# Altium integrated library NSC Amplifier.IntLib: 715 symbols (part 10 of 19)
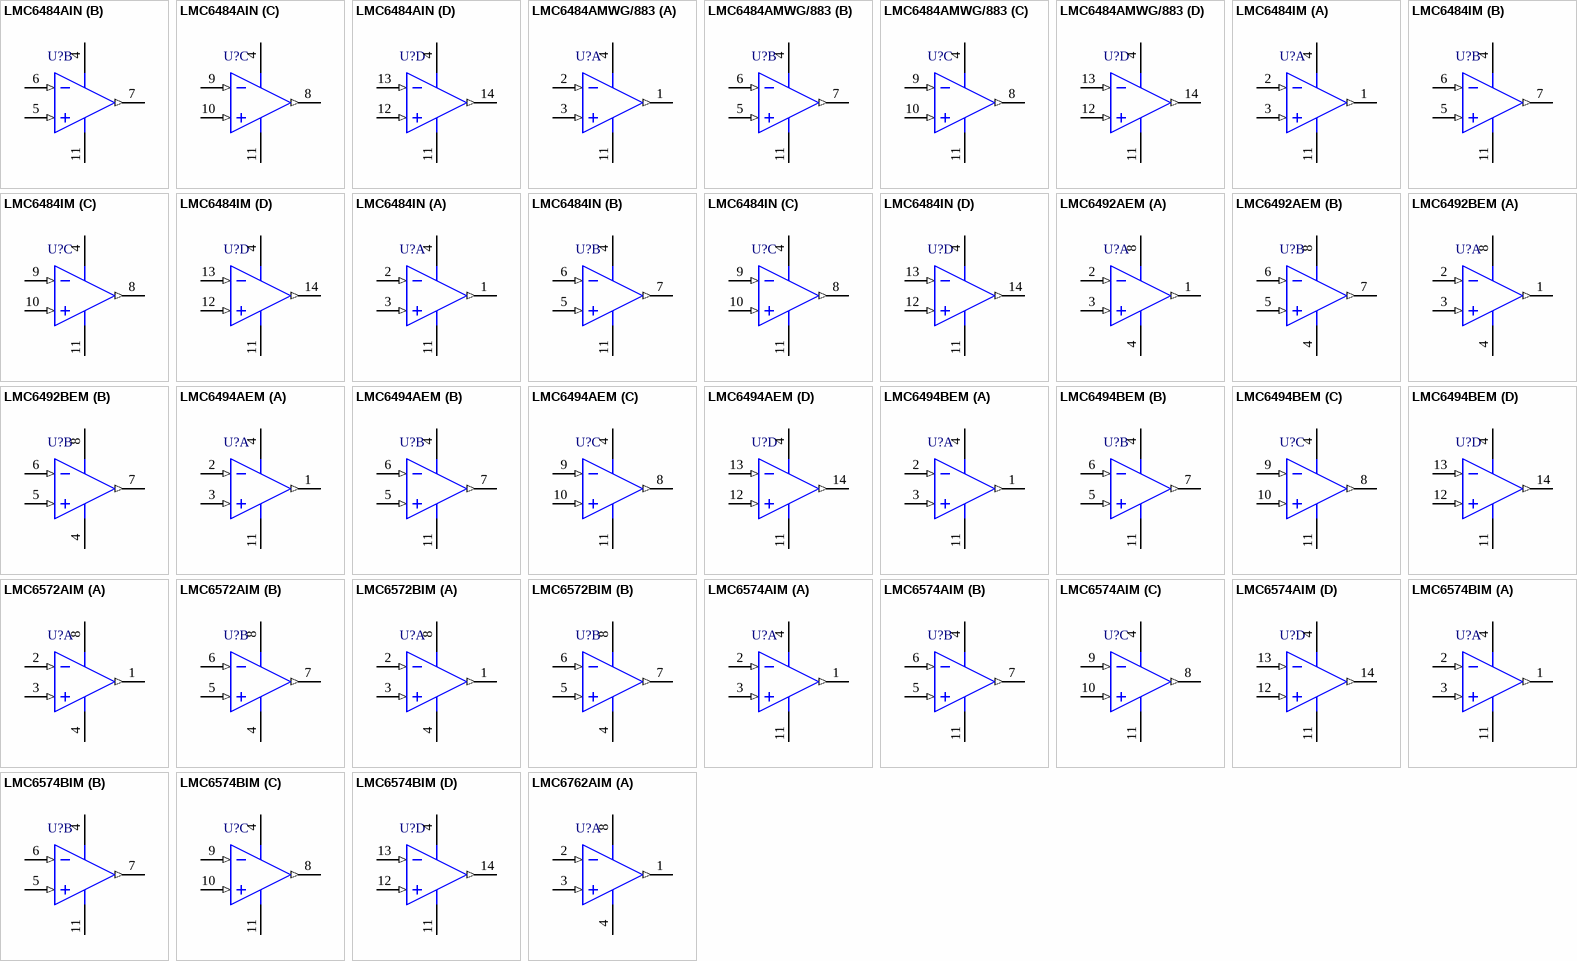
[diagram p47: symbols LMC6484AIN to LMC6762AIM]

## LMC6494AEM
designator U?
Quad CMOS Rail-to-Rail Input and Output Operational Amplifier; PartNumber: LMC6494AEM; Manufacturer: National Semiconductor; CompType: Amplifiers; PackageTopMarking: NSUZXYTT*LMC6494*AEM; Published: 4-Dec-2008; LatestRevisionDate: 13-Jan-2009; LatestRevisionNote: Sim Model Added.; DatasheetVersion: Aug-2000; PackageVersion: revJ, Jan-1996; PackageReference: M14A; Publisher: Altium Limited; PackageDescription: Molded Package S.O., .150in Wide, 14 Lead; RoHS: O; PinCount: 14; DigiKeyPartNumber: LMC6494AEM-ND; Code_JEDEC: MS-012AB; Code_IPC: SOIC127P600-14; ComponentLink1Description: LMC6494 Datasheet; ComponentLink1URL: http://www.national.com/ds/LM/LMC6494.pdf; ComponentLink2Description: LMC6494 Web Page; ComponentLink2URL: http://www.national.com/pf/LM/LMC6494.html; ComponentLink3Description: M14A Package Page; ComponentLink3URL: http://www.national.com/packaging/folders/m14a.html
footprint M14A_N (SOIC, 14-Leads, Body 8.6x3.9mm, Pitch 1.27mm, IPC Medium Density)
footprint M14A_L (SOIC, 14-Leads, Body 8.6x3.9mm, Pitch 1.27mm, IPC High Density)
footprint M14A_M (SOIC, 14-Leads, Body 8.6x3.9mm, Pitch 1.27mm, IPC Low Density)
simulation model LMC6494A (SUBCKT)
pins on every part: 4 V+ (power), 11 V- (power)
part A pins: 1 OUTA (out), 2 INA- (in), 3 INA+ (in)
part B pins: 5 INB+ (in), 6 INB- (in), 7 OUTB (out)
part C pins: 8 OUTC (out), 9 INC- (in), 10 INC+ (in)
part D pins: 12 IND+ (in), 13 IND- (in), 14 OUTD (out)

## LMC6494BEM
designator U?
Quad CMOS Rail-to-Rail Input and Output Operational Amplifier; PartNumber: LMC6494BEM; Manufacturer: National Semiconductor; CompType: Amplifiers; PackageTopMarking: NSUZXYTT*LMC6494*BEM; Published: 4-Dec-2008; LatestRevisionDate: 13-Jan-2009; LatestRevisionNote: Sim Model Added.; DatasheetVersion: Aug-2000; PackageVersion: revJ, Jan-1996; PackageReference: M14A; Publisher: Altium Limited; PackageDescription: Molded Package S.O., .150in Wide, 14 Lead; RoHS: O; PinCount: 14; DigiKeyPartNumber: LMC6494BEM-ND; Code_JEDEC: MS-012AB; Code_IPC: SOIC127P600-14; ComponentLink1Description: LMC6494 Datasheet; ComponentLink1URL: http://www.national.com/ds/LM/LMC6494.pdf; ComponentLink2Description: LMC6494 Web Page; ComponentLink2URL: http://www.national.com/pf/LM/LMC6494.html; ComponentLink3Description: M14A Package Page; ComponentLink3URL: http://www.national.com/packaging/folders/m14a.html
footprint M14A_N (SOIC, 14-Leads, Body 8.6x3.9mm, Pitch 1.27mm, IPC Medium Density)
footprint M14A_L (SOIC, 14-Leads, Body 8.6x3.9mm, Pitch 1.27mm, IPC High Density)
footprint M14A_M (SOIC, 14-Leads, Body 8.6x3.9mm, Pitch 1.27mm, IPC Low Density)
simulation model LMC6494B (SUBCKT)
pins on every part: 4 V+ (power), 11 V- (power)
part A pins: 1 OUTA (out), 2 INA- (in), 3 INA+ (in)
part B pins: 5 INB+ (in), 6 INB- (in), 7 OUTB (out)
part C pins: 8 OUTC (out), 9 INC- (in), 10 INC+ (in)
part D pins: 12 IND+ (in), 13 IND- (in), 14 OUTD (out)

## LMC6572AIM
designator U?
Dual Low Voltage (2.7V to 3V) Operational Amplifier; PartNumber: LMC6572AIM; Manufacturer: National Semiconductor; CompType: Amplifiers; PackageTopMarking: NSZXTT*LMC65*72AIM; Published: 4-Dec-2008; LatestRevisionDate: 13-Jan-2009; LatestRevisionNote: Sim Model Added.; DatasheetVersion: Aug-2000; PackageVersion: revL, Sep-2006; PackageReference: M08A; Publisher: Altium Limited; PackageDescription: SOIC Narrow, 4.9 x 3.9 x 1.45mm, 8 Lead, 1.27mm Pitch; RoHS: Y; PinCount: 8; DigiKeyPartNumber: LMC6572AIM-ND; Code_JEDEC: MS-012-AA; Code_IPC: SOIC127P600-8; ComponentLink1Description: LMC6572 Datasheet; ComponentLink1URL: http://www.national.com/ds/LM/LMC6572.pdf; ComponentLink2Description: LMC6572 Web Page; ComponentLink2URL: http://www.national.com/pf/LM/LMC6572.html; ComponentLink3Description: M08A Package Page; ComponentLink3URL: http://www.national.com/packaging/folders/m08a.html
footprint M08A_N (SOIC, 8-Leads, Body 4.9x3.9mm, Pitch 1.27mm, IPC Medium Density)
footprint M08A_L (SOIC, 8-Leads, Body 4.9x3.9mm, Pitch 1.27mm, IPC High Density)
footprint M08A_M (SOIC, 8-Leads, Body 4.9x3.9mm, Pitch 1.27mm, IPC Low Density)
simulation model LMC6572A (SUBCKT)
pins on every part: 4 V- (power), 8 V+ (power)
part A pins: 1 OUTA (out), 2 INA- (in), 3 INA+ (in)
part B pins: 5 INB+ (in), 6 INB- (in), 7 OUTB (out)

## LMC6572BIM
designator U?
Dual Low Voltage (2.7V to 3V) Operational Amplifier; PartNumber: LMC6572BIM; Manufacturer: National Semiconductor; CompType: Amplifiers; PackageTopMarking: NSZXTT*LMC65*72BIM; Published: 4-Dec-2008; LatestRevisionDate: 13-Jan-2009; LatestRevisionNote: Sim Model Added.; DatasheetVersion: Aug-2000; PackageVersion: revL, Sep-2006; PackageReference: M08A; Publisher: Altium Limited; PackageDescription: SOIC Narrow, 4.9 x 3.9 x 1.45mm, 8 Lead, 1.27mm Pitch; RoHS: Y; PinCount: 8; DigiKeyPartNumber: LMC6572BIM-ND; Code_JEDEC: MS-012-AA; Code_IPC: SOIC127P600-8; ComponentLink1Description: LMC6572 Datasheet; ComponentLink1URL: http://www.national.com/ds/LM/LMC6572.pdf; ComponentLink2Description: LMC6572 Web Page; ComponentLink2URL: http://www.national.com/pf/LM/LMC6572.html; ComponentLink3Description: M08A Package Page; ComponentLink3URL: http://www.national.com/packaging/folders/m08a.html
footprint M08A_N (SOIC, 8-Leads, Body 4.9x3.9mm, Pitch 1.27mm, IPC Medium Density)
footprint M08A_L (SOIC, 8-Leads, Body 4.9x3.9mm, Pitch 1.27mm, IPC High Density)
footprint M08A_M (SOIC, 8-Leads, Body 4.9x3.9mm, Pitch 1.27mm, IPC Low Density)
simulation model LMC6572B (SUBCKT)
pins on every part: 4 V- (power), 8 V+ (power)
part A pins: 1 OUTA (out), 2 INA- (in), 3 INA+ (in)
part B pins: 5 INB+ (in), 6 INB- (in), 7 OUTB (out)

## LMC6574AIM
designator U?
Quad Low Voltage (2.7V to 3V) Operational Amplifier; PartNumber: LMC6574AIM; Manufacturer: National Semiconductor; CompType: Amplifiers; PackageTopMarking: NSUZXYTT*LMC6574*AIM; Published: 4-Dec-2008; LatestRevisionDate: 13-Jan-2009; LatestRevisionNote: Sim Model Added.; DatasheetVersion: Aug-2000; PackageVersion: revJ, Jan-1996; PackageReference: M14A; Publisher: Altium Limited; PackageDescription: Molded Package S.O., .150in Wide, 14 Lead; RoHS: O; PinCount: 14; DigiKeyPartNumber: LMC6574AIM-ND; Code_JEDEC: MS-012AB; Code_IPC: SOIC127P600-14; ComponentLink1Description: LMC6574 Datasheet; ComponentLink1URL: http://www.national.com/ds/LM/LMC6574.pdf; ComponentLink2Description: LMC6574 Web Page; ComponentLink2URL: http://www.national.com/pf/LM/LMC6574.html; ComponentLink3Description: M14A Package Page; ComponentLink3URL: http://www.national.com/packaging/folders/m14a.html
footprint M14A_N (SOIC, 14-Leads, Body 8.6x3.9mm, Pitch 1.27mm, IPC Medium Density)
footprint M14A_L (SOIC, 14-Leads, Body 8.6x3.9mm, Pitch 1.27mm, IPC High Density)
footprint M14A_M (SOIC, 14-Leads, Body 8.6x3.9mm, Pitch 1.27mm, IPC Low Density)
simulation model LMC6574A (SUBCKT)
pins on every part: 4 V+ (power), 11 V- (power)
part A pins: 1 OUT1 (out), 2 IN1- (in), 3 IN1+ (in)
part B pins: 5 IN2+ (in), 6 IN2- (in), 7 OUT2 (out)
part C pins: 8 OUT3 (out), 9 IN3- (in), 10 IN3+ (in)
part D pins: 12 IN4+ (in), 13 IN4- (in), 14 OUT4 (out)

## LMC6574BIM
designator U?
Quad Low Voltage (2.7V to 3V) Operational Amplifier; PartNumber: LMC6574BIM; Manufacturer: National Semiconductor; CompType: Amplifiers; PackageTopMarking: NSUZXYTT*LMC6574*BIM; Published: 4-Dec-2008; LatestRevisionDate: 13-Jan-2009; LatestRevisionNote: Sim Model Added.; DatasheetVersion: Aug-2000; PackageVersion: revJ, Jan-1996; PackageReference: M14A; Publisher: Altium Limited; PackageDescription: Molded Package S.O., .150in Wide, 14 Lead; RoHS: Y; PinCount: 14; DigiKeyPartNumber: LMC6574BIM-ND; Code_JEDEC: MS-012AB; Code_IPC: SOIC127P600-14; ComponentLink1Description: LMC6574 Datasheet; ComponentLink1URL: http://www.national.com/ds/LM/LMC6574.pdf; ComponentLink2Description: LMC6574 Web Page; ComponentLink2URL: http://www.national.com/pf/LM/LMC6574.html; ComponentLink3Description: M14A Package Page; ComponentLink3URL: http://www.national.com/packaging/folders/m14a.html
footprint M14A_N (SOIC, 14-Leads, Body 8.6x3.9mm, Pitch 1.27mm, IPC Medium Density)
footprint M14A_L (SOIC, 14-Leads, Body 8.6x3.9mm, Pitch 1.27mm, IPC High Density)
footprint M14A_M (SOIC, 14-Leads, Body 8.6x3.9mm, Pitch 1.27mm, IPC Low Density)
simulation model LMC6574B (SUBCKT)
pins on every part: 4 V+ (power), 11 V- (power)
part A pins: 1 OUT1 (out), 2 IN1- (in), 3 IN1+ (in)
part B pins: 5 IN2+ (in), 6 IN2- (in), 7 OUT2 (out)
part C pins: 8 OUT3 (out), 9 IN3- (in), 10 IN3+ (in)
part D pins: 12 IN4+ (in), 13 IN4- (in), 14 OUT4 (out)

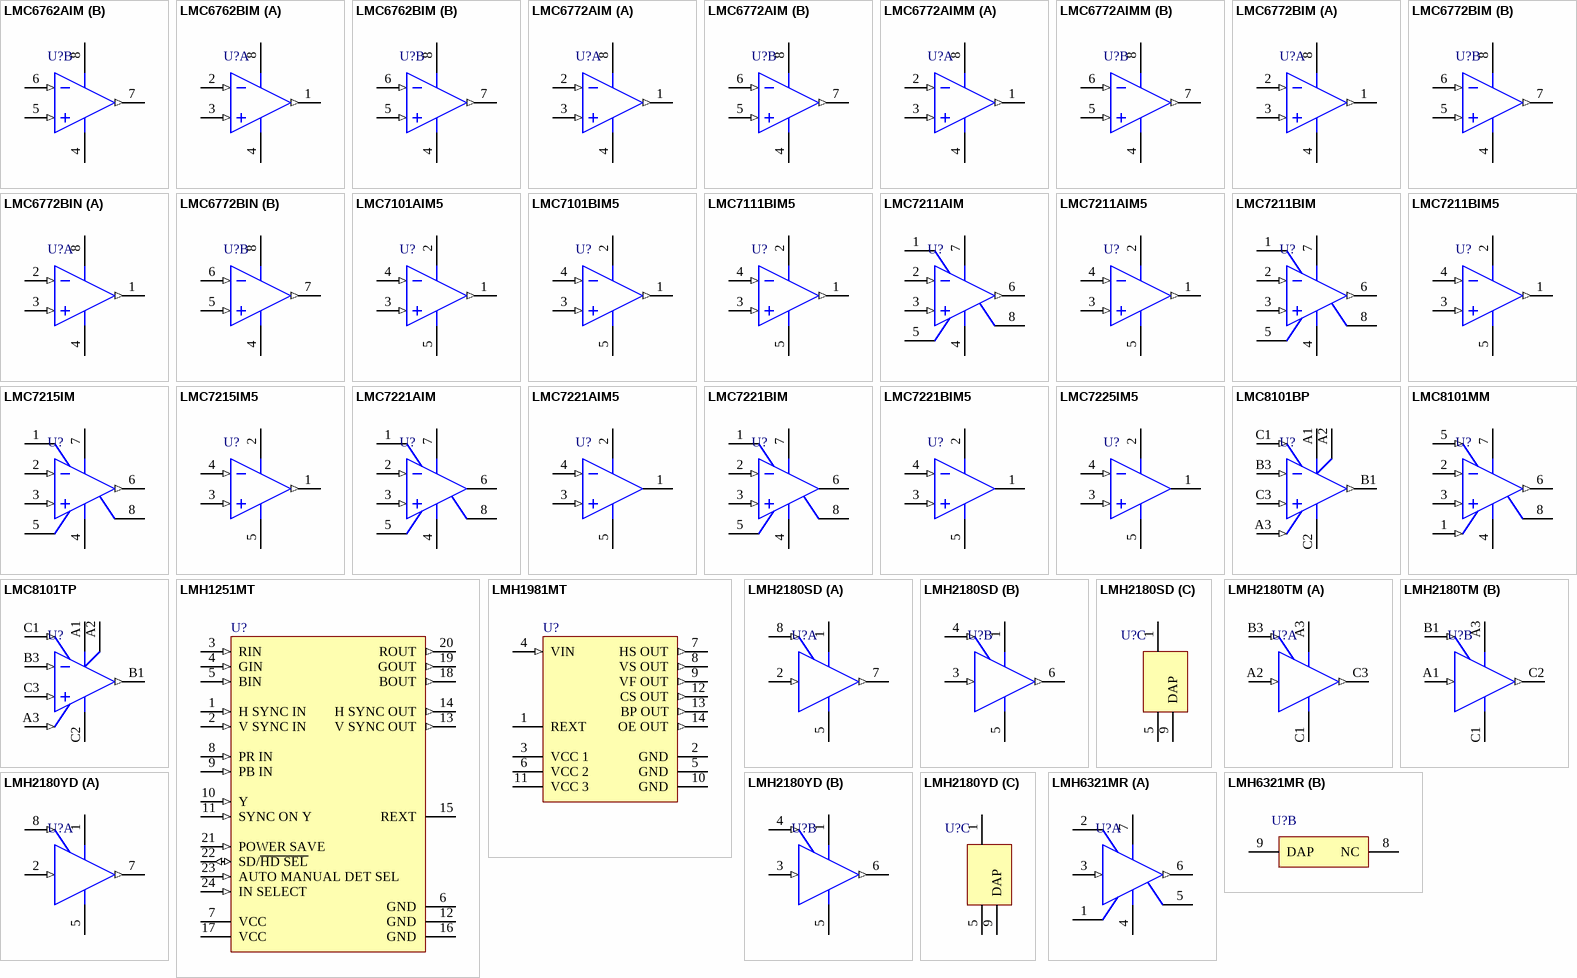
[diagram p23: symbols LMC6762AIM to LMH6321MR]

## LMC6762AIM
designator U?
Dual Micro-Power Rail-to-Rail Input CMOS Comparator with Push-Pull Output; PartNumber: LMC6762AIM; Manufacturer: National Semiconductor; CompType: Amplifiers; PackageTopMarking: NSZXTT*LMC67*62AIM; Published: 4-Dec-2008; LatestRevisionDate: 13-Jan-2009; LatestRevisionNote: Sim Model Added.; DatasheetVersion: Aug-2000; PackageVersion: revL, Sep-2006; PackageReference: M08A; Publisher: Altium Limited; PackageDescription: SOIC Narrow, 4.9 x 3.9 x 1.45mm, 8 Lead, 1.27mm Pitch; RoHS: O; PinCount: 8; DigiKeyPartNumber: LMC6762AIM-ND; Code_JEDEC: MS-012-AA; Code_IPC: SOIC127P600-8; ComponentLink1Description: LMC6762 Datasheet; ComponentLink1URL: http://www.national.com/ds/LM/LMC6762.pdf; ComponentLink2Description: LMC6762 Web Page; ComponentLink2URL: http://www.national.com/pf/LM/LMC6762.html; ComponentLink3Description: M08A Package Page; ComponentLink3URL: http://www.national.com/packaging/folders/m08a.html
footprint M08A_N (SOIC, 8-Leads, Body 4.9x3.9mm, Pitch 1.27mm, IPC Medium Density)
footprint M08A_L (SOIC, 8-Leads, Body 4.9x3.9mm, Pitch 1.27mm, IPC High Density)
footprint M08A_M (SOIC, 8-Leads, Body 4.9x3.9mm, Pitch 1.27mm, IPC Low Density)
simulation model LMC6762A (SUBCKT)
pins on every part: 4 V- (power), 8 V+ (power)
part A pins: 1 OUTA (out), 2 INA- (in), 3 INA+ (in)
part B pins: 5 INB+ (in), 6 INB- (in), 7 OUTB (out)

## LMC6762BIM
designator U?
Dual Micro-Power Rail-to-Rail Input CMOS Comparator with Push-Pull Output; PartNumber: LMC6762BIM; Manufacturer: National Semiconductor; CompType: Amplifiers; PackageTopMarking: NSZXTT*LMC67*62BIM; Published: 4-Dec-2008; LatestRevisionDate: 13-Jan-2009; LatestRevisionNote: Sim Model Added.; DatasheetVersion: Aug-2000; PackageVersion: revL, Sep-2006; PackageReference: M08A; Publisher: Altium Limited; PackageDescription: SOIC Narrow, 4.9 x 3.9 x 1.45mm, 8 Lead, 1.27mm Pitch; RoHS: O; PinCount: 8; DigiKeyPartNumber: LMC6762BIM-ND; Code_JEDEC: MS-012-AA; Code_IPC: SOIC127P600-8; ComponentLink1Description: LMC6762 Datasheet; ComponentLink1URL: http://www.national.com/ds/LM/LMC6762.pdf; ComponentLink2Description: LMC6762 Web Page; ComponentLink2URL: http://www.national.com/pf/LM/LMC6762.html; ComponentLink3Description: M08A Package Page; ComponentLink3URL: http://www.national.com/packaging/folders/m08a.html
footprint M08A_N (SOIC, 8-Leads, Body 4.9x3.9mm, Pitch 1.27mm, IPC Medium Density)
footprint M08A_L (SOIC, 8-Leads, Body 4.9x3.9mm, Pitch 1.27mm, IPC High Density)
footprint M08A_M (SOIC, 8-Leads, Body 4.9x3.9mm, Pitch 1.27mm, IPC Low Density)
simulation model LMC6762B (SUBCKT)
pins on every part: 4 V- (power), 8 V+ (power)
part A pins: 1 OUTA (out), 2 INA- (in), 3 INA+ (in)
part B pins: 5 INB+ (in), 6 INB- (in), 7 OUTB (out)

## LMC6772AIM
designator U?
Dual Micro-Power Rail-to-Rail Input CMOS Comparator with Open Drain Output; PartNumber: LMC6772AIM; Manufacturer: National Semiconductor; CompType: Amplifiers; PackageTopMarking: NSZXTT*LMC67*72AIM; Published: 4-Dec-2008; LatestRevisionDate: 13-Jan-2009; LatestRevisionNote: Sim Model Added.; DatasheetVersion: Aug-2000; PackageVersion: revL, Sep-2006; PackageReference: M08A; Publisher: Altium Limited; PackageDescription: SOIC Narrow, 4.9 x 3.9 x 1.45mm, 8 Lead, 1.27mm Pitch; RoHS: O; PinCount: 8; DigiKeyPartNumber: LMC6772AIMMCT-ND; Code_JEDEC: MS-012-AA; Code_IPC: SOIC127P600-8; ComponentLink1Description: LMC6772 Datasheet; ComponentLink1URL: http://www.national.com/ds/LM/LMC6772.pdf; ComponentLink2Description: LMC6772 Web Page; ComponentLink2URL: http://www.national.com/pf/LM/LMC6772.html; ComponentLink3Description: M08A Package Page; ComponentLink3URL: http://www.national.com/packaging/folders/m08a.html
footprint M08A_N (SOIC, 8-Leads, Body 4.9x3.9mm, Pitch 1.27mm, IPC Medium Density)
footprint M08A_L (SOIC, 8-Leads, Body 4.9x3.9mm, Pitch 1.27mm, IPC High Density)
footprint M08A_M (SOIC, 8-Leads, Body 4.9x3.9mm, Pitch 1.27mm, IPC Low Density)
simulation model LMC6772A (SUBCKT)
pins on every part: 4 V- (power), 8 V+ (power)
part A pins: 1 OUTA (out), 2 INA- (in), 3 INA+ (in)
part B pins: 5 INB+ (in), 6 INB- (in), 7 OUTB (out)

## LMC6772AIMM
designator U?
Dual Micro-Power Rail-to-Rail Input CMOS Comparator with Open Drain Output; PartNumber: LMC6772AIMM; Manufacturer: National Semiconductor; CompType: Amplifiers; PackageTopMarking: ZXTT*C21; Published: 4-Dec-2008; LatestRevisionDate: 13-Jan-2009; LatestRevisionNote: Sim Model Added.; DatasheetVersion: Aug-2000; PackageVersion: revF, Apr-2008; PackageReference: MUA08A; Publisher: Altium Limited; PackageDescription: MINI SOIC, .118 x .118 x .034in, 8 Lead, .0256in Pitch; RoHS: O; PinCount: 8; DigiKeyPartNumber: LMC6772AIMMCT-ND; Code_JEDEC: MO-187-AA; ComponentLink1Description: LMC6772 Datasheet; ComponentLink1URL: http://www.national.com/ds/LM/LMC6772.pdf; ComponentLink2Description: LMC6772 Web Page; ComponentLink2URL: http://www.national.com/pf/LM/LMC6772.html; ComponentLink3Description: MUA08A Package Page; ComponentLink3URL: http://www.national.com/packaging/folders/mua08a.html
footprint MUA08A_N (TSOP, 8-Leads, Body 3x3mm, Pitch 0.65mm, IPC Medium Density)
footprint MUA08A_L (TSOP, 8-Leads, Body 3x3mm, Pitch 0.65mm, IPC High Density)
footprint MUA08A_M (TSOP, 8-Leads, Body 3x3mm, Pitch 0.65mm, IPC Low Density)
simulation model LMC6772A (SUBCKT)
pins on every part: 4 V- (power), 8 V+ (power)
part A pins: 1 OUTA (out), 2 INA- (in), 3 INA+ (in)
part B pins: 5 INB+ (in), 6 INB- (in), 7 OUTB (out)

## LMC6772BIM
designator U?
Dual Micro-Power Rail-to-Rail Input CMOS Comparator with Open Drain Output; PartNumber: LMC6772BIM; Manufacturer: National Semiconductor; CompType: Amplifiers; PackageTopMarking: NSZXTT*LMC67*72BIM; Published: 4-Dec-2008; LatestRevisionDate: 13-Jan-2009; LatestRevisionNote: Sim Model Added.; DatasheetVersion: Aug-2000; PackageVersion: revL, Sep-2006; PackageReference: M08A; Publisher: Altium Limited; PackageDescription: SOIC Narrow, 4.9 x 3.9 x 1.45mm, 8 Lead, 1.27mm Pitch; RoHS: O; PinCount: 8; DigiKeyPartNumber: LMC6772BIM-ND; Code_JEDEC: MS-012-AA; Code_IPC: SOIC127P600-8; ComponentLink1Description: LMC6772 Datasheet; ComponentLink1URL: http://www.national.com/ds/LM/LMC6772.pdf; ComponentLink2Description: LMC6772 Web Page; ComponentLink2URL: http://www.national.com/pf/LM/LMC6772.html; ComponentLink3Description: M08A Package Page; ComponentLink3URL: http://www.national.com/packaging/folders/m08a.html
footprint M08A_N (SOIC, 8-Leads, Body 4.9x3.9mm, Pitch 1.27mm, IPC Medium Density)
footprint M08A_L (SOIC, 8-Leads, Body 4.9x3.9mm, Pitch 1.27mm, IPC High Density)
footprint M08A_M (SOIC, 8-Leads, Body 4.9x3.9mm, Pitch 1.27mm, IPC Low Density)
simulation model LMC6772B (SUBCKT)
pins on every part: 4 V- (power), 8 V+ (power)
part A pins: 1 OUTA (out), 2 INA- (in), 3 INA+ (in)
part B pins: 5 INB+ (in), 6 INB- (in), 7 OUTB (out)

## LMC6772BIN
designator U?
Dual Micro-Power Rail-to-Rail Input CMOS Comparator with Open Drain Output; PartNumber: LMC6772BIN; Manufacturer: National Semiconductor; CompType: Amplifiers; PackageTopMarking: NSUZXYTT*LMC6772*BIN; Published: 4-Dec-2008; LatestRevisionDate: 13-Jan-2009; LatestRevisionNote: Sim Model Added.; DatasheetVersion: Aug-2000; PackageVersion: revG, May-2006; PackageReference: N08E; Publisher: Altium Limited; PackageDescription: MDIP, .365 x .250 x .130in, 8 Lead, .100in Pitch; RoHS: O; PinCount: 8; DigiKeyPartNumber: LMC6772BIN-ND; Code_JEDEC: MS-001-BA; ComponentLink1Description: LMC6772 Datasheet; ComponentLink1URL: http://www.national.com/ds/LM/LMC6772.pdf; ComponentLink2Description: LMC6772 Web Page; ComponentLink2URL: http://www.national.com/pf/LM/LMC6772.html; ComponentLink3Description: N08E Package Page; ComponentLink3URL: http://www.national.com/packaging/folders/n08e.html
footprint N08E (DIP, 8-Leads, Row Spacing 7.62mm, Pitch 2.54mm, Body 9.91x6.35mm)
simulation model LMC6772B (SUBCKT)
pins on every part: 4 V- (power), 8 V+ (power)
part A pins: 1 OUTA (out), 2 INA- (in), 3 INA+ (in)
part B pins: 5 INB+ (in), 6 INB- (in), 7 OUTB (out)

## LMC7101AIM5
designator U?
Tiny Low Power Operational Amplifier with Rail-to-Rail Input and Output; PartNumber: LMC7101AIM5; Manufacturer: National Semiconductor; CompType: Amplifiers; PackageTopMarking: A00A*XTT; Published: 4-Dec-2008; LatestRevisionDate: 13-Jan-2009; LatestRevisionNote: Sim Model Added.; DatasheetVersion: Feb-2006; PackageVersion: revD, Aug-2008; PackageReference: MF05A; Publisher: Altium Limited; PackageDescription: Molded SOT-23, .115 x .063 x .040 in Body, 5 Lead, .0375 in Pitch; RoHS: O; PinCount: 5; DigiKeyPartNumber: LMC7101AIM5XCT-ND; Code_IPC: SOT23-5; ComponentLink1Description: LMC7101 Datasheet; ComponentLink1URL: http://www.national.com/ds/LM/LMC7101.pdf; ComponentLink2Description: LMC7101 Web Page; ComponentLink2URL: http://www.national.com/pf/LM/LMC7101.html; ComponentLink3Description: MF05A Package Page; ComponentLink3URL: http://www.national.com/packaging/folders/mf05a.html
footprint MF05A_N (SOT23, 5-Leads, Body 2.9x1.6mm, Pitch 0.95mm, Lead Span 2.8mm, IPC Medium Density)
footprint MF05A_L (SOT23, 5-Leads, Body 2.9x1.6mm, Pitch 0.95mm, Lead Span 2.8mm, IPC High Density)
footprint MF05A_M (SOT23, 5-Leads, Body 2.9x1.6mm, Pitch 0.95mm, Lead Span 2.8mm, IPC Low Density)
simulation model LMC7101A (SUBCKT)
pins: 1 OUT (out), 2 V+ (power), 3 IN+ (in), 4 IN- (in), 5 V- (power)

## LMC7101BIM5
designator U?
Tiny Low Power Operational Amplifier with Rail-to-Rail Input and Output; PartNumber: LMC7101BIM5; Manufacturer: National Semiconductor; CompType: Amplifiers; PackageTopMarking: A00B*XTT; Published: 4-Dec-2008; LatestRevisionDate: 13-Jan-2009; LatestRevisionNote: Sim Model Added.; DatasheetVersion: Feb-2006; PackageVersion: revD, Aug-2008; PackageReference: MF05A; Publisher: Altium Limited; PackageDescription: Molded SOT-23, .115 x .063 x .040 in Body, 5 Lead, .0375 in Pitch; RoHS: O; PinCount: 5; DigiKeyPartNumber: LMC7101BIM5NSCT-ND; Code_IPC: SOT23-5; ComponentLink1Description: LMC7101 Datasheet; ComponentLink1URL: http://www.national.com/ds/LM/LMC7101.pdf; ComponentLink2Description: LMC7101 Web Page; ComponentLink2URL: http://www.national.com/pf/LM/LMC7101.html; ComponentLink3Description: MF05A Package Page; ComponentLink3URL: http://www.national.com/packaging/folders/mf05a.html
footprint MF05A_N (SOT23, 5-Leads, Body 2.9x1.6mm, Pitch 0.95mm, Lead Span 2.8mm, IPC Medium Density)
footprint MF05A_L (SOT23, 5-Leads, Body 2.9x1.6mm, Pitch 0.95mm, Lead Span 2.8mm, IPC High Density)
footprint MF05A_M (SOT23, 5-Leads, Body 2.9x1.6mm, Pitch 0.95mm, Lead Span 2.8mm, IPC Low Density)
simulation model LMC7101B (SUBCKT)
pins: 1 OUT (out), 2 V+ (power), 3 IN+ (in), 4 IN- (in), 5 V- (power)

## LMC7111BIM5
designator U?
Tiny CMOS Operational Amplifier with Rail-to-Rail Input and Output; PartNumber: LMC7111BIM5; Manufacturer: National Semiconductor; CompType: Amplifiers; PackageTopMarking: A01B*XTT; Published: 4-Dec-2008; LatestRevisionDate: 13-Jan-2009; LatestRevisionNote: Sim Model Added.; DatasheetVersion: Jun-2006; PackageVersion: revD, Aug-2008; PackageReference: MF05A; Publisher: Altium Limited; PackageDescription: Molded SOT-23, .115 x .063 x .040 in Body, 5 Lead, .0375 in Pitch; RoHS: O; PinCount: 5; DigiKeyPartNumber: LMC7111BIM5XCT-ND; Code_IPC: SOT23-5; ComponentLink1Description: LMC7111 Datasheet; ComponentLink1URL: http://www.national.com/ds/LM/LMC7111.pdf; ComponentLink2Description: LMC7111 Web Page; ComponentLink2URL: http://www.national.com/pf/LM/LMC7111.html; ComponentLink3Description: MF05A Package Page; ComponentLink3URL: http://www.national.com/packaging/folders/mf05a.html
footprint MF05A_N (SOT23, 5-Leads, Body 2.9x1.6mm, Pitch 0.95mm, Lead Span 2.8mm, IPC Medium Density)
footprint MF05A_L (SOT23, 5-Leads, Body 2.9x1.6mm, Pitch 0.95mm, Lead Span 2.8mm, IPC High Density)
footprint MF05A_M (SOT23, 5-Leads, Body 2.9x1.6mm, Pitch 0.95mm, Lead Span 2.8mm, IPC Low Density)
simulation model LMC7111B (SUBCKT)
pins: 1 OUT (out), 2 V+ (power), 3 IN+ (in), 4 IN- (in), 5 V- (power)

## LMC7211AIM
designator U?
Tiny CMOS Comparator with Rail-to-Rail Input; PartNumber: LMC7211AIM; Manufacturer: National Semiconductor; CompType: Amplifiers; PackageTopMarking: NSZXTT*LMC72*11AIM; Published: 4-Dec-2008; LatestRevisionDate: 13-Jan-2009; LatestRevisionNote: Sim Model Added.; DatasheetVersion: Aug-2002; PackageVersion: revL, Sep-2006; PackageReference: M08A; Publisher: Altium Limited; PackageDescription: SOIC Narrow, 4.9 x 3.9 x 1.45mm, 8 Lead, 1.27mm Pitch; RoHS: O; PinCount: 8; DigiKeyPartNumber: LMC7211AIM5CT-ND; Code_JEDEC: MS-012-AA; Code_IPC: SOIC127P600-8; ComponentLink1Description: LMC7211 Datasheet; ComponentLink1URL: http://www.national.com/ds/LM/LMC7211.pdf; ComponentLink2Description: LMC7211 Web Page; ComponentLink2URL: http://www.national.com/pf/LM/LMC7211.html; ComponentLink3Description: M08A Package Page; ComponentLink3URL: http://www.national.com/packaging/folders/m08a.html
footprint M08A_N (SOIC, 8-Leads, Body 4.9x3.9mm, Pitch 1.27mm, IPC Medium Density)
footprint M08A_L (SOIC, 8-Leads, Body 4.9x3.9mm, Pitch 1.27mm, IPC High Density)
footprint M08A_M (SOIC, 8-Leads, Body 4.9x3.9mm, Pitch 1.27mm, IPC Low Density)
simulation model LMC7211A (SUBCKT)
pins: 1 NC, 2 IN- (in), 3 IN+ (in), 4 V- (power), 5 NC, 6 OUT (out), 7 V+ (power), 8 NC

## LMC7211AIM5
designator U?
Tiny CMOS Comparator with Rail-to-Rail Input; PartNumber: LMC7211AIM5; Manufacturer: National Semiconductor; CompType: Amplifiers; PackageTopMarking: C00A*XTT; Published: 4-Dec-2008; LatestRevisionDate: 13-Jan-2009; LatestRevisionNote: Sim Model Added.; DatasheetVersion: Aug-2002; PackageVersion: revD, Aug-2008; PackageReference: MF05A; Publisher: Altium Limited; PackageDescription: Molded SOT-23, .115 x .063 x .040 in Body, 5 Lead, .0375 in Pitch; RoHS: O; PinCount: 5; DigiKeyPartNumber: LMC7211AIM5CT-ND; Code_IPC: SOT23-5; ComponentLink1Description: LMC7211 Datasheet; ComponentLink1URL: http://www.national.com/ds/LM/LMC7211.pdf; ComponentLink2Description: LMC7211 Web Page; ComponentLink2URL: http://www.national.com/pf/LM/LMC7211.html; ComponentLink3Description: MF05A Package Page; ComponentLink3URL: http://www.national.com/packaging/folders/mf05a.html
footprint MF05A_N (SOT23, 5-Leads, Body 2.9x1.6mm, Pitch 0.95mm, Lead Span 2.8mm, IPC Medium Density)
footprint MF05A_L (SOT23, 5-Leads, Body 2.9x1.6mm, Pitch 0.95mm, Lead Span 2.8mm, IPC High Density)
footprint MF05A_M (SOT23, 5-Leads, Body 2.9x1.6mm, Pitch 0.95mm, Lead Span 2.8mm, IPC Low Density)
simulation model LMC7211A (SUBCKT)
pins: 1 OUT (out), 2 V+ (power), 3 IN+ (in), 4 IN- (in), 5 V- (power)

## LMC7211BIM
designator U?
Tiny CMOS Comparator with Rail-to-Rail Input; PartNumber: LMC7211BIM; Manufacturer: National Semiconductor; CompType: Amplifiers; PackageTopMarking: NSZXTT*LMC72*11BIM; Published: 4-Dec-2008; LatestRevisionDate: 13-Jan-2009; LatestRevisionNote: Sim Model Added.; DatasheetVersion: Aug-2002; PackageVersion: revL, Sep-2006; PackageReference: M08A; Publisher: Altium Limited; PackageDescription: SOIC Narrow, 4.9 x 3.9 x 1.45mm, 8 Lead, 1.27mm Pitch; RoHS: O; PinCount: 8; DigiKeyPartNumber: LMC7211BIM5CT-ND; Code_JEDEC: MS-012-AA; Code_IPC: SOIC127P600-8; ComponentLink1Description: LMC7211 Datasheet; ComponentLink1URL: http://www.national.com/ds/LM/LMC7211.pdf; ComponentLink2Description: LMC7211 Web Page; ComponentLink2URL: http://www.national.com/pf/LM/LMC7211.html; ComponentLink3Description: M08A Package Page; ComponentLink3URL: http://www.national.com/packaging/folders/m08a.html
footprint M08A_N (SOIC, 8-Leads, Body 4.9x3.9mm, Pitch 1.27mm, IPC Medium Density)
footprint M08A_L (SOIC, 8-Leads, Body 4.9x3.9mm, Pitch 1.27mm, IPC High Density)
footprint M08A_M (SOIC, 8-Leads, Body 4.9x3.9mm, Pitch 1.27mm, IPC Low Density)
simulation model LMC7211B (SUBCKT)
pins: 1 NC, 2 IN- (in), 3 IN+ (in), 4 V- (power), 5 NC, 6 OUT (out), 7 V+ (power), 8 NC

## LMC7211BIM5
designator U?
Tiny CMOS Comparator with Rail-to-Rail Input; PartNumber: LMC7211BIM5; Manufacturer: National Semiconductor; CompType: Amplifiers; PackageTopMarking: C00B*XTT; Published: 4-Dec-2008; LatestRevisionDate: 13-Jan-2009; LatestRevisionNote: Sim Model Added.; DatasheetVersion: Aug-2002; PackageVersion: revD, Aug-2008; PackageReference: MF05A; Publisher: Altium Limited; PackageDescription: Molded SOT-23, .115 x .063 x .040 in Body, 5 Lead, .0375 in Pitch; RoHS: O; PinCount: 5; DigiKeyPartNumber: LMC7211BIM5CT-ND; Code_IPC: SOT23-5; ComponentLink1Description: LMC7211 Datasheet; ComponentLink1URL: http://www.national.com/ds/LM/LMC7211.pdf; ComponentLink2Description: LMC7211 Web Page; ComponentLink2URL: http://www.national.com/pf/LM/LMC7211.html; ComponentLink3Description: MF05A Package Page; ComponentLink3URL: http://www.national.com/packaging/folders/mf05a.html
footprint MF05A_N (SOT23, 5-Leads, Body 2.9x1.6mm, Pitch 0.95mm, Lead Span 2.8mm, IPC Medium Density)
footprint MF05A_L (SOT23, 5-Leads, Body 2.9x1.6mm, Pitch 0.95mm, Lead Span 2.8mm, IPC High Density)
footprint MF05A_M (SOT23, 5-Leads, Body 2.9x1.6mm, Pitch 0.95mm, Lead Span 2.8mm, IPC Low Density)
simulation model LMC7211B (SUBCKT)
pins: 1 OUT (out), 2 V+ (power), 3 IN+ (in), 4 IN- (in), 5 V- (power)

## LMC7215IM
designator U?
Micro-Power, Rail-to-Rail CMOS Comparators with Open-Drain/Push-Pull Outputs and TinyPak Package; PartNumber: LMC7215IM; Manufacturer: National Semiconductor; CompType: Amplifiers; PackageTopMarking: NSZXTT*LMC72*15IM; Published: 4-Dec-2008; LatestRevisionDate: 13-Jan-2009; LatestRevisionNote: Sim Model Added.; DatasheetVersion: Sep-2006; PackageVersion: revL, Sep-2006; PackageReference: M08A; Publisher: Altium Limited; PackageDescription: SOIC Narrow, 4.9 x 3.9 x 1.45mm, 8 Lead, 1.27mm Pitch; RoHS: Y; PinCount: 8; DigiKeyPartNumber: LMC7215IM5CT-ND; Code_JEDEC: MS-012-AA; Code_IPC: SOIC127P600-8; ComponentLink1Description: LMC7215 Datasheet; ComponentLink1URL: http://www.national.com/ds/LM/LMC7215.pdf; ComponentLink2Description: LMC7215 Web Page; ComponentLink2URL: http://www.national.com/pf/LM/LMC7215.html; ComponentLink3Description: M08A Package Page; ComponentLink3URL: http://www.national.com/packaging/folders/m08a.html
footprint M08A_N (SOIC, 8-Leads, Body 4.9x3.9mm, Pitch 1.27mm, IPC Medium Density)
footprint M08A_L (SOIC, 8-Leads, Body 4.9x3.9mm, Pitch 1.27mm, IPC High Density)
footprint M08A_M (SOIC, 8-Leads, Body 4.9x3.9mm, Pitch 1.27mm, IPC Low Density)
simulation model LMC7215 (SUBCKT)
pins: 1 NC, 2 IN- (in), 3 IN+ (in), 4 V- (power), 5 NC, 6 OUT (out), 7 V+ (power), 8 NC

## LMC7215IM5
designator U?
Micro-Power, Rail-to-Rail CMOS Comparators with Open-Drain/Push-Pull Outputs and TinyPak Package; PartNumber: LMC7215IM5; Manufacturer: National Semiconductor; CompType: Amplifiers; PackageTopMarking: C02B*XTT; Published: 4-Dec-2008; LatestRevisionDate: 13-Jan-2009; LatestRevisionNote: Sim Model Added.; DatasheetVersion: Sep-2006; PackageVersion: revD, Aug-2008; PackageReference: MF05A; Publisher: Altium Limited; PackageDescription: Molded SOT-23, .115 x .063 x .040 in Body, 5 Lead, .0375 in Pitch; RoHS: O; PinCount: 5; DigiKeyPartNumber: LMC7215IM5CT-ND; Code_IPC: SOT23-5; ComponentLink1Description: LMC7215 Datasheet; ComponentLink1URL: http://www.national.com/ds/LM/LMC7215.pdf; ComponentLink2Description: LMC7215 Web Page; ComponentLink2URL: http://www.national.com/pf/LM/LMC7215.html; ComponentLink3Description: MF05A Package Page; ComponentLink3URL: http://www.national.com/packaging/folders/mf05a.html
footprint MF05A_N (SOT23, 5-Leads, Body 2.9x1.6mm, Pitch 0.95mm, Lead Span 2.8mm, IPC Medium Density)
footprint MF05A_L (SOT23, 5-Leads, Body 2.9x1.6mm, Pitch 0.95mm, Lead Span 2.8mm, IPC High Density)
footprint MF05A_M (SOT23, 5-Leads, Body 2.9x1.6mm, Pitch 0.95mm, Lead Span 2.8mm, IPC Low Density)
simulation model LMC7215 (SUBCKT)
pins: 1 OUT (out), 2 V+ (power), 3 IN+ (in), 4 IN- (in), 5 V- (power)

## LMC7221AIM
designator U?
Tiny CMOS Comparator with Rail-to-Rail Input and Open Drain Output; PartNumber: LMC7221AIM; Manufacturer: National Semiconductor; CompType: Amplifiers; PackageTopMarking: NSZXTT*LMC72*21AIM; Published: 4-Dec-2008; LatestRevisionDate: 13-Jan-2009; LatestRevisionNote: Sim Model Added.; DatasheetVersion: Sep-2006; PackageVersion: revL, Sep-2006; PackageReference: M08A; Publisher: Altium Limited; PackageDescription: SOIC Narrow, 4.9 x 3.9 x 1.45mm, 8 Lead, 1.27mm Pitch; RoHS: Y; PinCount: 8; DigiKeyPartNumber: LMC7221AIM5CT-ND; Code_JEDEC: MS-012-AA; Code_IPC: SOIC127P600-8; ComponentLink1Description: LMC7221 Datasheet; ComponentLink1URL: http://www.national.com/ds/LM/LMC7221.pdf; ComponentLink2Description: LMC7221 Web Page; ComponentLink2URL: http://www.national.com/pf/LM/LMC7221.html; ComponentLink3Description: M08A Package Page; ComponentLink3URL: http://www.national.com/packaging/folders/m08a.html
footprint M08A_N (SOIC, 8-Leads, Body 4.9x3.9mm, Pitch 1.27mm, IPC Medium Density)
footprint M08A_L (SOIC, 8-Leads, Body 4.9x3.9mm, Pitch 1.27mm, IPC High Density)
footprint M08A_M (SOIC, 8-Leads, Body 4.9x3.9mm, Pitch 1.27mm, IPC Low Density)
simulation model LMC7221A (SUBCKT)
pins: 1 NC, 2 IN- (in), 3 IN+ (in), 4 V- (power), 5 NC, 6 OUT (oc), 7 V+ (power), 8 NC

## LMC7221AIM5
designator U?
Tiny CMOS Comparator with Rail-to-Rail Input and Open Drain Output; PartNumber: LMC7221AIM5; Manufacturer: National Semiconductor; CompType: Amplifiers; PackageTopMarking: C01A*XTT; Published: 4-Dec-2008; LatestRevisionDate: 13-Jan-2009; LatestRevisionNote: Sim Model Added.; DatasheetVersion: Sep-2006; PackageVersion: revD, Aug-2008; PackageReference: MF05A; Publisher: Altium Limited; PackageDescription: Molded SOT-23, .115 x .063 x .040 in Body, 5 Lead, .0375 in Pitch; RoHS: O; PinCount: 5; DigiKeyPartNumber: LMC7221AIM5CT-ND; Code_IPC: SOT23-5; ComponentLink1Description: LMC7221 Datasheet; ComponentLink1URL: http://www.national.com/ds/LM/LMC7221.pdf; ComponentLink2Description: LMC7221 Web Page; ComponentLink2URL: http://www.national.com/pf/LM/LMC7221.html; ComponentLink3Description: MF05A Package Page; ComponentLink3URL: http://www.national.com/packaging/folders/mf05a.html
footprint MF05A_N (SOT23, 5-Leads, Body 2.9x1.6mm, Pitch 0.95mm, Lead Span 2.8mm, IPC Medium Density)
footprint MF05A_L (SOT23, 5-Leads, Body 2.9x1.6mm, Pitch 0.95mm, Lead Span 2.8mm, IPC High Density)
footprint MF05A_M (SOT23, 5-Leads, Body 2.9x1.6mm, Pitch 0.95mm, Lead Span 2.8mm, IPC Low Density)
simulation model LMC7221A (SUBCKT)
pins: 1 OUT (oc), 2 V+ (power), 3 IN+ (in), 4 IN- (in), 5 V- (power)

## LMC7221BIM
designator U?
Tiny CMOS Comparator with Rail-to-Rail Input and Open Drain Output; PartNumber: LMC7221BIM; Manufacturer: National Semiconductor; CompType: Amplifiers; PackageTopMarking: NSZXTT*LMC72*21BIM; Published: 4-Dec-2008; LatestRevisionDate: 13-Jan-2009; LatestRevisionNote: Sim Model Added.; DatasheetVersion: Sep-2006; PackageVersion: revL, Sep-2006; PackageReference: M08A; Publisher: Altium Limited; PackageDescription: SOIC Narrow, 4.9 x 3.9 x 1.45mm, 8 Lead, 1.27mm Pitch; RoHS: O; PinCount: 8; DigiKeyPartNumber: LMC7221BIM5CT-ND; Code_JEDEC: MS-012-AA; Code_IPC: SOIC127P600-8; ComponentLink1Description: LMC7221 Datasheet; ComponentLink1URL: http://www.national.com/ds/LM/LMC7221.pdf; ComponentLink2Description: LMC7221 Web Page; ComponentLink2URL: http://www.national.com/pf/LM/LMC7221.html; ComponentLink3Description: M08A Package Page; ComponentLink3URL: http://www.national.com/packaging/folders/m08a.html
footprint M08A_N (SOIC, 8-Leads, Body 4.9x3.9mm, Pitch 1.27mm, IPC Medium Density)
footprint M08A_L (SOIC, 8-Leads, Body 4.9x3.9mm, Pitch 1.27mm, IPC High Density)
footprint M08A_M (SOIC, 8-Leads, Body 4.9x3.9mm, Pitch 1.27mm, IPC Low Density)
simulation model LMC7221B (SUBCKT)
pins: 1 NC, 2 IN- (in), 3 IN+ (in), 4 V- (power), 5 NC, 6 OUT (oc), 7 V+ (power), 8 NC

## LMC7221BIM5
designator U?
Tiny CMOS Comparator with Rail-to-Rail Input and Open Drain Output; PartNumber: LMC7221BIM5; Manufacturer: National Semiconductor; CompType: Amplifiers; PackageTopMarking: C01B*XTT; Published: 4-Dec-2008; LatestRevisionDate: 13-Jan-2009; LatestRevisionNote: Sim Model Added.; DatasheetVersion: Sep-2006; PackageVersion: revD, Aug-2008; PackageReference: MF05A; Publisher: Altium Limited; PackageDescription: Molded SOT-23, .115 x .063 x .040 in Body, 5 Lead, .0375 in Pitch; RoHS: O; PinCount: 5; DigiKeyPartNumber: LMC7221BIM5CT-ND; Code_IPC: SOT23-5; ComponentLink1Description: LMC7221 Datasheet; ComponentLink1URL: http://www.national.com/ds/LM/LMC7221.pdf; ComponentLink2Description: LMC7221 Web Page; ComponentLink2URL: http://www.national.com/pf/LM/LMC7221.html; ComponentLink3Description: MF05A Package Page; ComponentLink3URL: http://www.national.com/packaging/folders/mf05a.html
footprint MF05A_N (SOT23, 5-Leads, Body 2.9x1.6mm, Pitch 0.95mm, Lead Span 2.8mm, IPC Medium Density)
footprint MF05A_L (SOT23, 5-Leads, Body 2.9x1.6mm, Pitch 0.95mm, Lead Span 2.8mm, IPC High Density)
footprint MF05A_M (SOT23, 5-Leads, Body 2.9x1.6mm, Pitch 0.95mm, Lead Span 2.8mm, IPC Low Density)
simulation model LMC7221B (SUBCKT)
pins: 1 OUT (oc), 2 V+ (power), 3 IN+ (in), 4 IN- (in), 5 V- (power)

## LMC7225IM5
designator U?
Micro-Power, Rail-to-Rail CMOS Comparators with Open-Drain/Push-Pull Outputs and TinyPak Package; PartNumber: LMC7225IM5; Manufacturer: National Semiconductor; CompType: Amplifiers; PackageTopMarking: C03B*XTT; Published: 4-Dec-2008; LatestRevisionDate: 13-Jan-2009; LatestRevisionNote: Sim Model Added.; DatasheetVersion: Sep-2006; PackageVersion: revD, Aug-2008; PackageReference: MF05A; Publisher: Altium Limited; PackageDescription: Molded SOT-23, .115 x .063 x .040 in Body, 5 Lead, .0375 in Pitch; RoHS: O; PinCount: 5; DigiKeyPartNumber: LMC7225IM5CT-ND; Code_IPC: SOT23-5; ComponentLink1Description: LMC7225 Datasheet; ComponentLink1URL: http://www.national.com/ds/LM/LMC7225.pdf; ComponentLink2Description: LMC7225 Web Page; ComponentLink2URL: http://www.national.com/pf/LM/LMC7225.html; ComponentLink3Description: MF05A Package Page; ComponentLink3URL: http://www.national.com/packaging/folders/mf05a.html
footprint MF05A_N (SOT23, 5-Leads, Body 2.9x1.6mm, Pitch 0.95mm, Lead Span 2.8mm, IPC Medium Density)
footprint MF05A_L (SOT23, 5-Leads, Body 2.9x1.6mm, Pitch 0.95mm, Lead Span 2.8mm, IPC High Density)
footprint MF05A_M (SOT23, 5-Leads, Body 2.9x1.6mm, Pitch 0.95mm, Lead Span 2.8mm, IPC Low Density)
simulation model LMC7225 (SUBCKT)
pins: 1 OUT (oc), 2 V+ (power), 3 IN+ (in), 4 IN- (in), 5 V- (power)

## LMC8101BP
designator U?
Rail-to-Rail Input and Output, 2.7V Op Amp in micro SMD package with Shutdown; PartNumber: LMC8101BP; Manufacturer: National Semiconductor; CompType: Amplifiers; PackageTopMarking: XVA*I 2; Published: 4-Dec-2008; LatestRevisionDate: 13-Jan-2009; LatestRevisionNote: Sim Model Added.; DatasheetVersion: May-2004; PackageVersion: revC, Feb-2002; PackageReference: BPA08FFB; Publisher: Altium Limited; PackageDescription: Micro SMD, 8 Bump, 0.5mm Pitch; RoHS: N; PinCount: 8; DigiKeyPartNumber: LMC8101BPCT-ND; Code_JEDEC: MO-211-BC; ComponentLink1Description: LMC8101 Datasheet; ComponentLink1URL: http://www.national.com/ds/LM/LMC8101.pdf; ComponentLink2Description: LMC8101 Web Page; ComponentLink2URL: http://www.national.com/pf/LM/LMC8101.html; ComponentLink3Description: BPA08FFB Package Page; ComponentLink3URL: http://www.national.com/packaging/folders/bpa08ffb.html
footprint BPA08FFB (Micro SMD, 8-Leads, Body 1.41x1.41mm, Pitch 0.5mm, NSC Recommended)
simulation model LMC8101 (SUBCKT)
pins: A1 V+ (power), A2 V+ (power), A3 SL (in), B1 OUT (out), B3 IN- (in), C1 SD (in), C2 V- (power), C3 IN+ (in)

## LMC8101MM
designator U?
Rail-to-Rail Input and Output, 2.7V Op Amp in micro SMD package with Shutdown; PartNumber: LMC8101MM; Manufacturer: National Semiconductor; CompType: Amplifiers; PackageTopMarking: ZXTT*A11; Published: 4-Dec-2008; LatestRevisionDate: 13-Jan-2009; LatestRevisionNote: Sim Model Added.; DatasheetVersion: May-2004; PackageVersion: revF, Apr-2008; PackageReference: MUA08A; Publisher: Altium Limited; PackageDescription: MINI SOIC, .118 x .118 x .034in, 8 Lead, .0256in Pitch; RoHS: O; PinCount: 8; DigiKeyPartNumber: LMC8101MMCT-ND; Code_JEDEC: MO-187-AA; ComponentLink1Description: LMC8101 Datasheet; ComponentLink1URL: http://www.national.com/ds/LM/LMC8101.pdf; ComponentLink2Description: LMC8101 Web Page; ComponentLink2URL: http://www.national.com/pf/LM/LMC8101.html; ComponentLink3Description: MUA08A Package Page; ComponentLink3URL: http://www.national.com/packaging/folders/mua08a.html
footprint MUA08A_N (TSOP, 8-Leads, Body 3x3mm, Pitch 0.65mm, IPC Medium Density)
footprint MUA08A_L (TSOP, 8-Leads, Body 3x3mm, Pitch 0.65mm, IPC High Density)
footprint MUA08A_M (TSOP, 8-Leads, Body 3x3mm, Pitch 0.65mm, IPC Low Density)
simulation model LMC8101 (SUBCKT)
pins: 1 SL (in), 2 IN- (in), 3 IN+ (in), 4 V- (power), 5 SD (in), 6 OUT (out), 7 V+ (power), 8 NC

## LMC8101TP
designator U?
Rail-to-Rail Input and Output, 2.7V Op Amp in micro SMD package with Shutdown; PartNumber: LMC8101TP; Manufacturer: National Semiconductor; CompType: Amplifiers; PackageTopMarking: XVA*I 08; Published: 4-Dec-2008; LatestRevisionDate: 13-Jan-2009; LatestRevisionNote: Sim Model Added.; DatasheetVersion: May-2004; PackageVersion: revA, Mar-2002; PackageReference: TPA08FFA; Publisher: Altium Limited; PackageDescription: Thin Micro SMD, 8 Bump, 0.5mm Pitch; RoHS: Y; PinCount: 8; DigiKeyPartNumber: LMC8101TPCT-ND; Code_JEDEC: MO-211-BC; ComponentLink1Description: LMC8101 Datasheet; ComponentLink1URL: http://www.national.com/ds/LM/LMC8101.pdf; ComponentLink2Description: LMC8101 Web Page; ComponentLink2URL: http://www.national.com/pf/LM/LMC8101.html; ComponentLink3Description: TPA08FFA Package Page; ComponentLink3URL: http://www.national.com/packaging/folders/tpa08ffa.html
footprint TPA08FFA (Micro SMD, 8-Leads, Body 1.41x1.41mm, Pitch 0.5mm, NSC Recommended)
simulation model LMC8101 (SUBCKT)
pins: A1 V+ (power), A2 V+ (power), A3 SL (in), B1 OUT (out), B3 IN- (in), C1 SD (in), C2 V- (power), C3 IN+ (in)

## LMH1251MT
designator U?
YPBPR to RGBHV Converter and 2:1 Video Switch; PartNumber: LMH1251MT; Manufacturer: National Semiconductor; CompType: Amplifiers; PackageTopMarking: NSUZXYTT*LMH1251*MT; Published: 4-Dec-2008; DatasheetVersion: Jul-2008; PackageVersion: revE, Mar-2003; PackageReference: MTC24; Publisher: Altium Limited; PackageDescription: Molded TSSOP, Jedec, 7.8 x 4.4 x 0.9mm Body, 24 Lead, 0.65mm Pitch; RoHS: O; PinCount: 24; DigiKeyPartNumber: LMH1251MT-ND; Code_JEDEC: MO-153-AD; ComponentLink1Description: LMH1251 Datasheet; ComponentLink1URL: http://www.national.com/ds/LM/LMH1251.pdf; ComponentLink2Description: LMH1251 Web Page; ComponentLink2URL: http://www.national.com/pf/LM/LMH1251.html; ComponentLink3Description: MTC24 Package Page; ComponentLink3URL: http://www.national.com/packaging/folders/mtc24.html
footprint MTC24_N (TSOP, 24-Leads, Body 7.8x4.4mm, Pitch 0.65mm, IPC Medium Density)
footprint MTC24_L (TSOP, 24-Leads, Body 7.8x4.4mm, Pitch 0.65mm, IPC High Density)
footprint MTC24_M (TSOP, 24-Leads, Body 7.8x4.4mm, Pitch 0.65mm, IPC Low Density)
pins: 1 H SYNC IN (in), 2 V SYNC IN (in), 3 RIN (in), 4 GIN (in), 5 BIN (in), 6 GND (power), 7 VCC (power), 8 PR IN (in), 9 PB IN (in), 10 Y (in), 11 SYNC ON Y (in), 12 GND (power), 13 V SYNC OUT (out), 14 H SYNC OUT (out), 15 REXT, 16 GND (power), 17 VCC (power), 18 BOUT (out), 19 GOUT (out), 20 ROUT (out), 21 POWER SAVE (in), 22 SD/~{HD SEL} (io), 23 AUTO MANUAL DET SEL (in), 24 IN SELECT (in)

## LMH1981MT
designator U?
Multi-Format Video Sync Separator; PartNumber: LMH1981MT; Manufacturer: National Semiconductor; CompType: Amplifiers; PackageTopMarking: NSUZXYTT*LMH19*81MT; Published: 4-Dec-2008; DatasheetVersion: Jul-2007; PackageVersion: revD, Jun-2003; PackageReference: MTC14; Publisher: Altium Limited; PackageDescription: Molded TSSOP, JEDEC, 5 x 4.4 x 0.9mm Body, 14 Lead, 0.65mm Pitch; RoHS: Y; PinCount: 14; DigiKeyPartNumber: LMH1981MT-ND; Code_JEDEC: MO-153-AB-1; ComponentLink1Description: LMH1981 Datasheet; ComponentLink1URL: http://www.national.com/ds/LM/LMH1981.pdf; ComponentLink2Description: LMH1981 Web Page; ComponentLink2URL: http://www.national.com/pf/LM/LMH1981.html; ComponentLink3Description: MTC14 Package Page; ComponentLink3URL: http://www.national.com/packaging/folders/mtc14.html
footprint MTC14_N (TSOP, 14-Leads, Body 5x4.4mm, Pitch 0.65mm, IPC Medium Density)
footprint MTC14_L (TSOP, 14-Leads, Body 5x4.4mm, Pitch 0.65mm, IPC High Density)
footprint MTC14_M (TSOP, 14-Leads, Body 5x4.4mm, Pitch 0.65mm, IPC Low Density)
pins: 1 REXT, 2 GND (power), 3 VCC 1 (power), 4 VIN (in), 5 GND (power), 6 VCC 2 (power), 7 HS OUT (out), 8 VS OUT (out), 9 VF OUT (out), 10 GND (power), 11 VCC 3 (power), 12 CS OUT (out), 13 BP OUT (out), 14 OE OUT (out)

## LMH2180SD
designator U?
75 MHz Dual Clock Buffer; PartNumber: LMH2180SD; Manufacturer: National Semiconductor; CompType: Amplifiers; PackageTopMarking: ZXYTT*2180S; Published: 4-Dec-2008; DatasheetVersion: Aug-2008; PackageVersion: revA, Aug-2003; PackageReference: SDA08A; Publisher: Altium Limited; PackageDescription: LLP, Plastic, Dual, 3 x 3 x 0.8mm Body, 8 Lead, 0.5mm Pitch, No Pullback; RoHS: Y; PinCount: 8; DigiKeyPartNumber: LMH2180SDEVAL-ND; ComponentLink1Description: LMH2180 Datasheet; ComponentLink1URL: http://www.national.com/ds/LM/LMH2180.pdf; ComponentLink2Description: LMH2180 Web Page; ComponentLink2URL: http://www.national.com/pf/LM/LMH2180.html; ComponentLink3Description: SDA08A Package Page; ComponentLink3URL: http://www.national.com/packaging/folders/sda08a.html
footprint SDA08A (SON, 8-Leads, Body 3x3mm, Pitch 0.5mm, NSC Recommended)
pins on every part: 1 VDD (power), 5 VSS (power)
part A pins: 2 IN1 (in), 7 OUT1 (out), 8 EN1 (in)
part B pins: 3 IN2 (in), 4 EN2 (in), 6 OUT2 (out)
part C pins: 9 DAP

## LMH2180TM
designator U?
75 MHz Dual Clock Buffer; PartNumber: LMH2180TM; Manufacturer: National Semiconductor; CompType: Amplifiers; PackageTopMarking: XVA*I A; Published: 4-Dec-2008; DatasheetVersion: Aug-2008; PackageVersion: revA; PackageReference: TMD08CCA; Publisher: Altium Limited; PackageDescription: Thin Micro SMD, 8 Bump, 0.4mm Pitch; RoHS: Y; PinCount: 8; ComponentLink1Description: LMH2180 Datasheet; ComponentLink1URL: http://www.national.com/ds/LM/LMH2180.pdf; ComponentLink2Description: LMH2180 Web Page; ComponentLink2URL: http://www.national.com/pf/LM/LMH2180.html; ComponentLink3Description: TMD08CCA Package Page; ComponentLink3URL: http://www.national.com/packaging/folders/tmd08cca.html
footprint TMD08CCA (Micro SMD, 8-Leads, Body 1.22x1.22mm, Pitch 0.4mm, NSC Recommended)
pins on every part: A3 VDD (power), C1 VSS (power)
part A pins: A2 IN1 (in), B3 EN1 (in), C3 OUT1 (out)
part B pins: A1 IN2 (in), B1 EN2 (in), C2 OUT2 (out)

## LMH2180YD
designator U?
75 MHz Dual Clock Buffer; PartNumber: LMH2180YD; Manufacturer: National Semiconductor; CompType: Amplifiers; PackageTopMarking: ZXYTT*2180Y; Published: 4-Dec-2008; DatasheetVersion: Aug-2008; PackageVersion: revB, Jun-2005; PackageReference: YDA08A; Publisher: Altium Limited; PackageDescription: LLP, Plastic, Dual, 3 x 3 x 0.8mm, 8 Lead, 0.5mm Pitch, Solder Bump; RoHS: Y; PinCount: 8; DigiKeyPartNumber: LMH2180YD-ND; ComponentLink1Description: LMH2180 Datasheet; ComponentLink1URL: http://www.national.com/ds/LM/LMH2180.pdf; ComponentLink2Description: LMH2180 Web Page; ComponentLink2URL: http://www.national.com/pf/LM/LMH2180.html; ComponentLink3Description: YDA08A Package Page; ComponentLink3URL: http://www.national.com/packaging/folders/yda08a.html
footprint YDA08A (PSON, 8-Leads, Body 3x3mm, Pitch 0.5mm, NSC Recommended)
pins on every part: 1 VDD (power), 5 VSS (power)
part A pins: 2 IN1 (in), 7 OUT1 (out), 8 EN1 (in)
part B pins: 3 IN2 (in), 4 EN2 (in), 6 OUT2 (out)
part C pins: 9 DAP

## LMH6321MR
designator U?
300 mA High Speed Buffer with Adjustable Current Limit; PartNumber: LMH6321MR; Manufacturer: National Semiconductor; CompType: Amplifiers; PackageTopMarking: NSXYTT*LMH63*21MR; Published: 4-Dec-2008; LatestRevisionDate: 13-Jan-2009; LatestRevisionNote: Sim Model Added.; DatasheetVersion: Apr-2007; PackageVersion: revD, Dec-2007; PackageReference: MRA08A; Publisher: Altium Limited; PackageDescription: Molded, PSOP .193 x .154 x .058in, 8 Lead, .050in Pitch; RoHS: Y; PinCount: 8; DigiKeyPartNumber: LMH6321MR-ND; Code_JEDEC: MS-012-AA; ComponentLink1Description: LMH6321 Datasheet; ComponentLink1URL: http://www.national.com/ds/LM/LMH6321.pdf; ComponentLink2Description: LMH6321 Web Page; ComponentLink2URL: http://www.national.com/pf/LM/LMH6321.html; ComponentLink3Description: MRA08A Package Page; ComponentLink3URL: http://www.national.com/packaging/folders/mra08a.html
footprint MRA08A_N (SOIC, 8-Leads, Body 4.9x3.9mm, Pitch 1.27mm, Exposed Pad, IPC Medium Density)
footprint MRA08A_L (SOIC, 8-Leads, Body 4.9x3.9mm, Pitch 1.27mm, Exposed Pad, IPC High Density)
footprint MRA08A_M (SOIC, 8-Leads, Body 4.9x3.9mm, Pitch 1.27mm, Exposed Pad, IPC Low Density)
simulation model LMH6321 (SUBCKT)
part A pins: 1 EF, 2 CL, 3 IN (in), 4 V- (power), 5 GND (power), 6 OUT (out), 7 V+ (power)
part B pins: 8 NC, 9 DAP

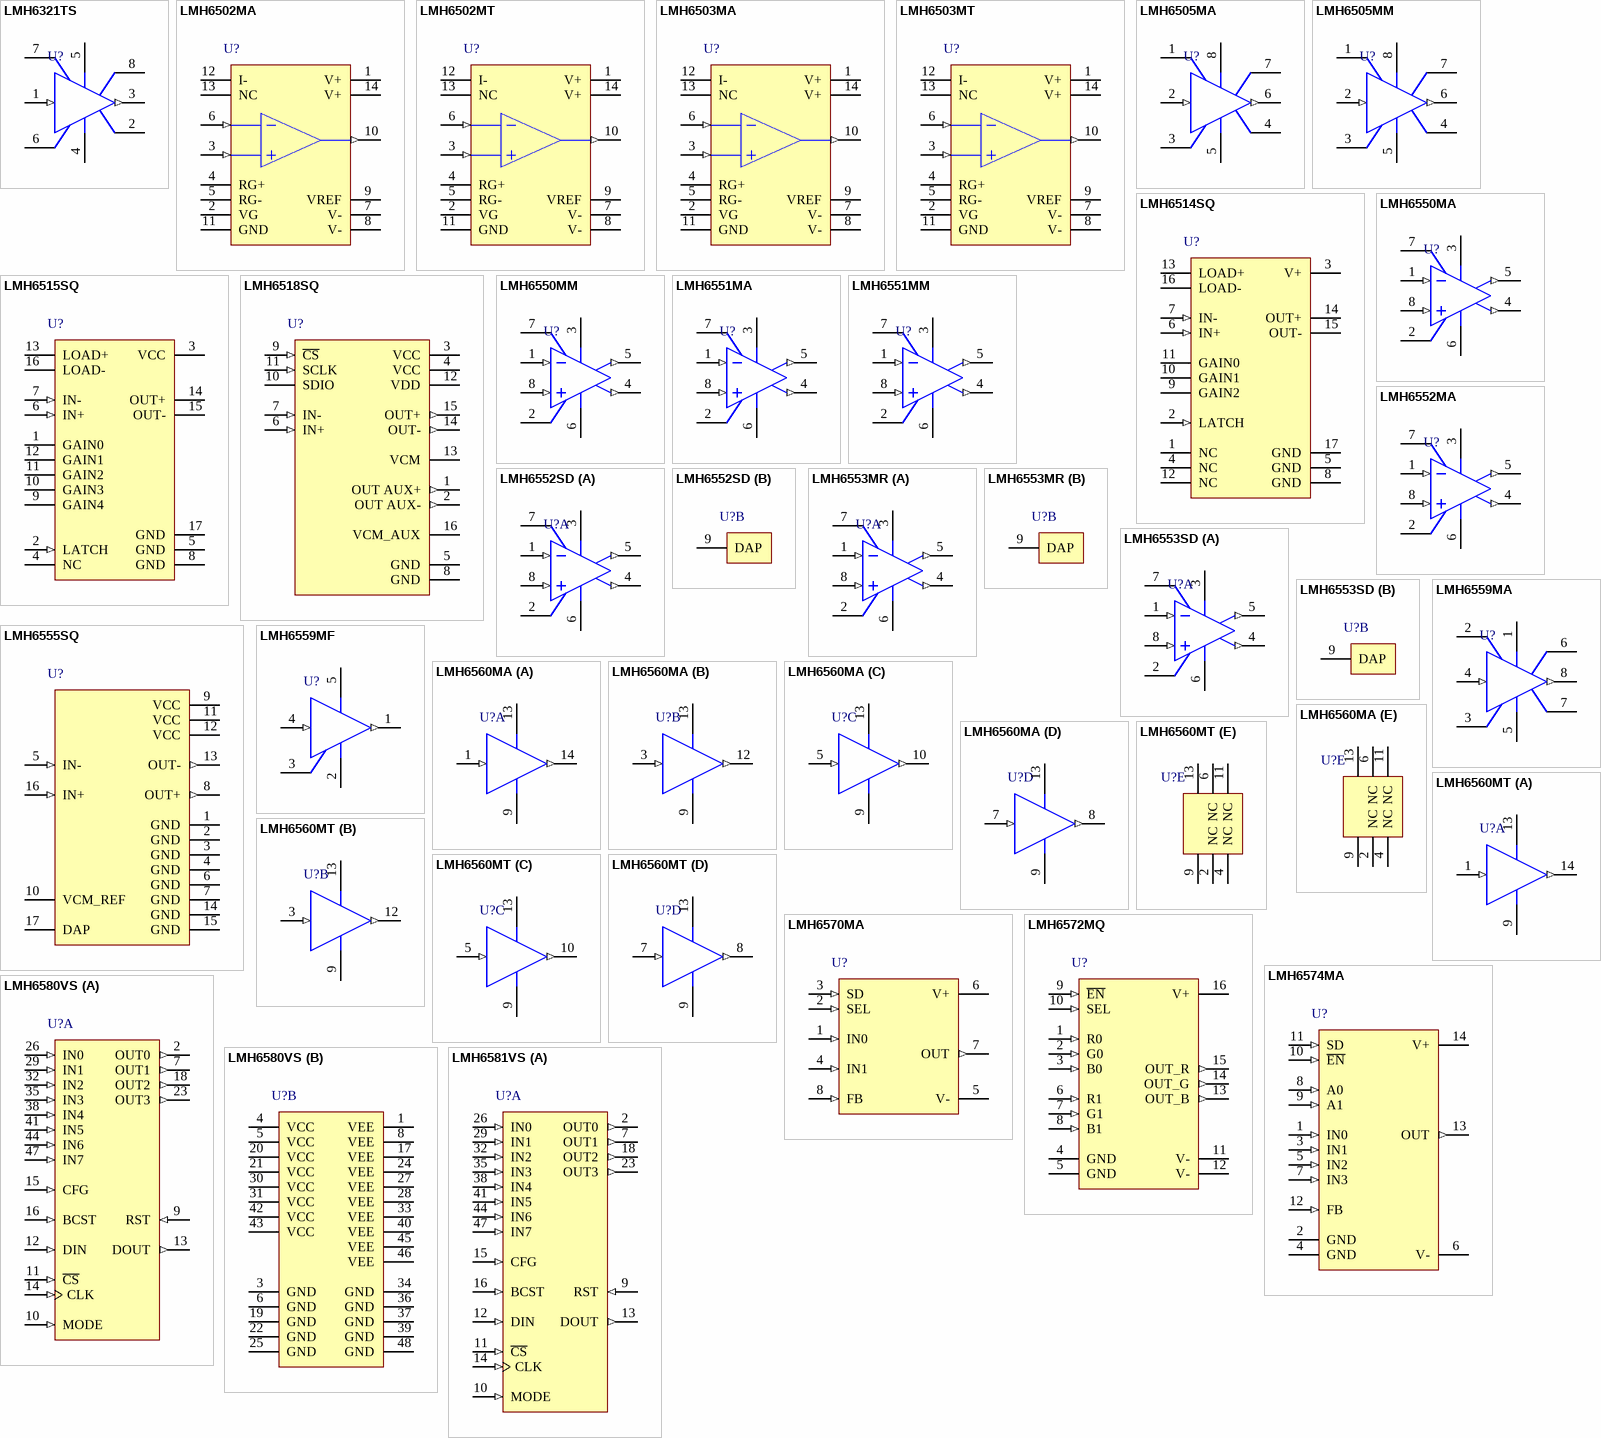
[diagram p24: symbols LMH6321TS to LMH6581VS]

## LMH6321TS
designator U?
300 mA High Speed Buffer with Adjustable Current Limit; PartNumber: LMH6321TS; Manufacturer: National Semiconductor; CompType: Amplifiers; PackageTopMarking: NSUZXYTTE#*LMH6321TS; Published: 4-Dec-2008; LatestRevisionDate: 13-Jan-2009; LatestRevisionNote: Sim Model Added.; DatasheetVersion: Apr-2007; PackageVersion: revE, Jul-2003; PackageReference: TS7B; Publisher: Altium Limited; PackageDescription: TO-263, Molded, .400 x .390 x .180in Body, 7 Lead, .050in Pitch, Surface Mount; RoHS: Y; PinCount: 7; DigiKeyPartNumber: LMH6321TS-ND; Code_JEDEC: MO-169-AC; ComponentLink1Description: LMH6321 Datasheet; ComponentLink1URL: http://www.national.com/ds/LM/LMH6321.pdf; ComponentLink2Description: LMH6321 Web Page; ComponentLink2URL: http://www.national.com/pf/LM/LMH6321.html; ComponentLink3Description: TS7B Package Page; ComponentLink3URL: http://www.national.com/packaging/folders/ts7b.html
footprint TS7B_N (D2-PAK, 8-Leads, Body 8.6x10.2mm, Pitch 1.27mm, Lead Span 14.1mm, IPC Medium Density)
footprint TS7B_L (D2-PAK, 8-Leads, Body 8.6x10.2mm, Pitch 1.27mm, Lead Span 14.1mm, IPC High Density)
footprint TS7B_M (D2-PAK, 8-Leads, Body 8.6x10.2mm, Pitch 1.27mm, Lead Span 14.1mm, IPC Low Density)
simulation model LMH6321 (SUBCKT)
pins: 1 IN (in), 2 GND (power), 3 OUT (out), 4 V- (power), 5 V+ (power), 6 EF, 7 CL, 8 DAP

## LMH6502MA
designator U?
Wideband, Low Power, Linear-in-dB Variable Gain Amplifier; PartNumber: LMH6502MA; Manufacturer: National Semiconductor; CompType: Amplifiers; PackageTopMarking: NSUZXYTT*LMH6502MA; Published: 4-Dec-2008; LatestRevisionDate: 13-Jan-2009; LatestRevisionNote: Sim Model Added.; DatasheetVersion: Jun-2004; PackageVersion: revJ, Jan-1996; PackageReference: M14A; Publisher: Altium Limited; PackageDescription: Molded Package S.O., .150in Wide, 14 Lead; RoHS: O; PinCount: 14; DigiKeyPartNumber: LMH6502MA-ND; Code_JEDEC: MS-012AB; Code_IPC: SOIC127P600-14; ComponentLink1Description: LMH6502 Datasheet; ComponentLink1URL: http://www.national.com/ds/LM/LMH6502.pdf; ComponentLink2Description: LMH6502 Web Page; ComponentLink2URL: http://www.national.com/pf/LM/LMH6502.html; ComponentLink3Description: M14A Package Page; ComponentLink3URL: http://www.national.com/packaging/folders/m14a.html
footprint M14A_N (SOIC, 14-Leads, Body 8.6x3.9mm, Pitch 1.27mm, IPC Medium Density)
footprint M14A_L (SOIC, 14-Leads, Body 8.6x3.9mm, Pitch 1.27mm, IPC High Density)
footprint M14A_M (SOIC, 14-Leads, Body 8.6x3.9mm, Pitch 1.27mm, IPC Low Density)
simulation model LMH6502 (SUBCKT)
pins: 1 V+ (power), 2 VG, 3 VIN+ (in), 4 RG+, 5 RG-, 6 VIN- (in), 7 V- (power), 8 V- (power), 9 VREF, 10 VOUT (out), 11 GND (power), 12 I-, 13 NC, 14 V+ (power)

## LMH6502MT
designator U?
Wideband, Low Power, Linear-in-dB Variable Gain Amplifier; PartNumber: LMH6502MT; Manufacturer: National Semiconductor; CompType: Amplifiers; PackageTopMarking: NSUZXYTT*LMH65*02MT; Published: 4-Dec-2008; LatestRevisionDate: 13-Jan-2009; LatestRevisionNote: Sim Model Added.; DatasheetVersion: Jun-2004; PackageVersion: revD, Jun-2003; PackageReference: MTC14; Publisher: Altium Limited; PackageDescription: Molded TSSOP, JEDEC, 5 x 4.4 x 0.9mm Body, 14 Lead, 0.65mm Pitch; RoHS: Y; PinCount: 14; DigiKeyPartNumber: LMH6502MT-ND; Code_JEDEC: MO-153-AB-1; ComponentLink1Description: LMH6502 Datasheet; ComponentLink1URL: http://www.national.com/ds/LM/LMH6502.pdf; ComponentLink2Description: LMH6502 Web Page; ComponentLink2URL: http://www.national.com/pf/LM/LMH6502.html; ComponentLink3Description: MTC14 Package Page; ComponentLink3URL: http://www.national.com/packaging/folders/mtc14.html
footprint MTC14_N (TSOP, 14-Leads, Body 5x4.4mm, Pitch 0.65mm, IPC Medium Density)
footprint MTC14_L (TSOP, 14-Leads, Body 5x4.4mm, Pitch 0.65mm, IPC High Density)
footprint MTC14_M (TSOP, 14-Leads, Body 5x4.4mm, Pitch 0.65mm, IPC Low Density)
simulation model LMH6502 (SUBCKT)
pins: 1 V+ (power), 2 VG, 3 VIN+ (in), 4 RG+, 5 RG-, 6 VIN- (in), 7 V- (power), 8 V- (power), 9 VREF, 10 VOUT (out), 11 GND (power), 12 I-, 13 NC, 14 V+ (power)